# Altium footprint library arduinoNano.PcbLib: 6 footprints
Each footprint in its own frame and in the unit in brackets; x right, y up, seen from the top. Pads: shape width x height; smd on the part's side, far side on the other; paste and mask are expansions set on the pad; w line width, h text height; cw(c..) or ccw(c..) is an arc to the next point about the centre after c.
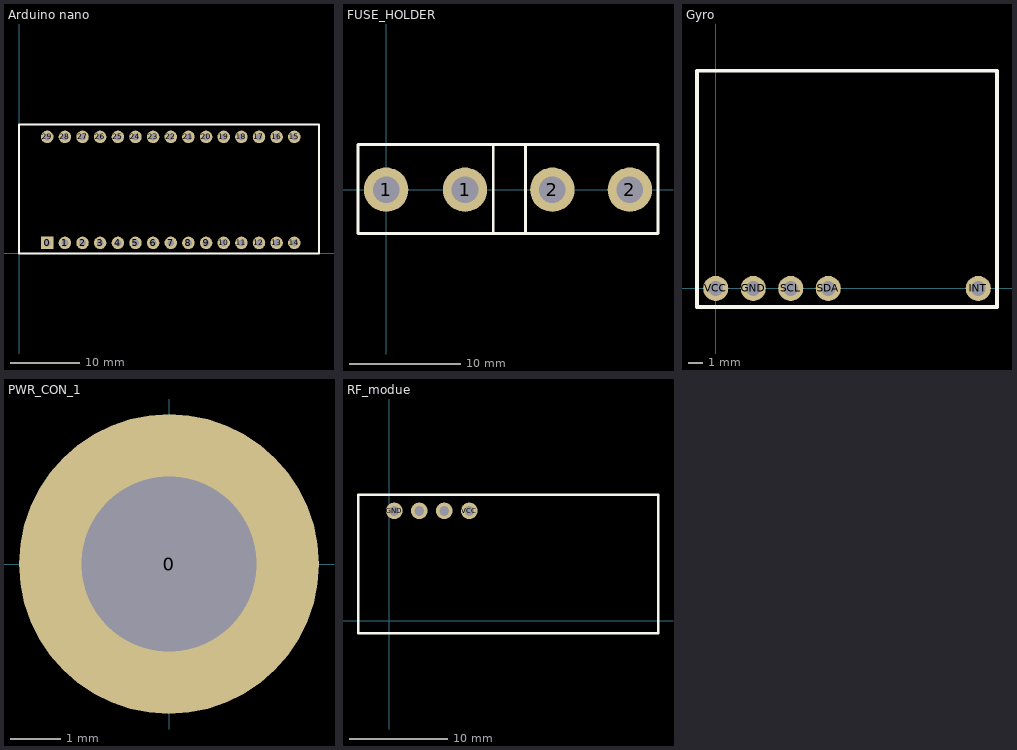
[diagram p0: the footprints below, top view; thin cyan lines are the x and y axes]

## Arduino nano [mm] "arduino nano"
height 43.18
pads (30):
  rect 1.8x1.8 hole 1: 0(4.064,1.524)
  round 1.8 hole 1: 1(6.604,1.524) 2(9.144,1.524) 3(11.684,1.524) 4(14.224,1.524) 5(16.764,1.524) 6(19.304,1.524) 7(21.844,1.524) 8(24.384,1.524) 9(26.924,1.524) 10(29.464,1.524) 11(32.004,1.524) 12(34.544,1.524) 13(37.084,1.524) 14(39.624,1.524) 15(39.624,16.764) 16(37.084,16.764) 17(34.544,16.764) 18(32.004,16.764) 19(29.464,16.764) 20(26.924,16.764) 21(24.384,16.764) 22(21.844,16.764) 23(19.304,16.764) 24(16.764,16.764) 25(14.224,16.764) 26(11.684,16.764) 27(9.144,16.764) 28(6.604,16.764) 29(4.064,16.764)
Top Overlay:
  lines w0.254: 0,0 0,18.542 43.18,18.542 43.18,0 0,0

## FUSE_HOLDER [mm]
pads (4):
  round 4 hole 2.4: 1(0,0) 1(7.112,0) 2(14.986,0) 2(21.971,0)
Top Overlay:
  lines w0.254: 9.652,-3.937 9.652,4.064 ; 12.573,-3.937 12.573,4.064 ; -2.54,-3.937 24.511,-3.937 24.511,4.064 24.13,4.064 24.003,4.064 -2.54,4.064 -2.54,0 -2.54,-3.937

## Gyro [mm]
pads (5):
  round 1.7 hole 1: GND(2.54,0) INT(17.78,0) SCL(5.08,0) SDA(7.62,0) VCC(0,0)
Top Overlay:
  lines w0.254: -1.27,-1.27 19.05,-1.27 19.05,14.732 -1.27,14.732 -1.27,-1.27

## PCBComponent_1 [mm]

## PWR_CON_1 [mm]
pads (1):
  round 6 hole 3.5: 0(0,0)

## RF_modue [mm]
pads (4):
  round 1.7 hole 1: DATA1(3.048,11.176) DATA2(5.588,11.176) GND(0.508,11.176) VCC(8.128,11.176)
Top Overlay:
  lines w0.254: -3.175,-1.27 -1.27,-1.27 27.305,-1.27 27.305,12.827 26.924,12.827 -3.175,12.827 -3.175,-1.27